# Altium schematic symbol library stm32sch.SchLib: 2 symbols
Pins are listed as number, name and electrical type; pins without a type are passive.

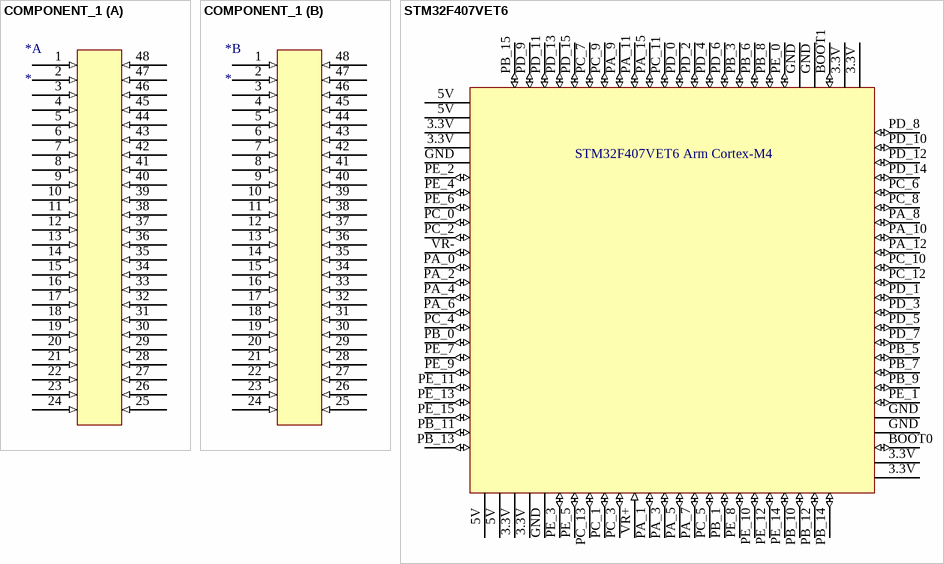
[diagram p0: symbols COMPONENT_1 to STM32F407VET6]

## COMPONENT_1
designator *
part A pins: 1 (in), 2 (in), 3 (in), 4 (in), 5 (in), 6 (in), 7 (in), 8 (in), 9 (in), 10 (in), 11 (in), 12 (in), 13 (in), 14 (in), 15 (in), 16 (in), 17 (in), 18 (in), 19 (in), 20 (in), 21 (in), 22 (in), 23 (in), 24 (in), 25 (in), 26 (in), 27 (in), 28 (in), 29 (in), 30 (in), 31 (in), 32 (in), 33 (in), 34 (in), 35 (in), 36 (in), 37 (in), 38 (in), 39 (in), 40 (in), 41 (in), 42 (in), 43 (in), 44 (in), 45 (in), 46 (in), 47 (in), 48 (in)
part B pins: 1 (in), 2 (in), 3 (in), 4 (in), 5 (in), 6 (in), 7 (in), 8 (in), 9 (in), 10 (in), 11 (in), 12 (in), 13 (in), 14 (in), 15 (in), 16 (in), 17 (in), 18 (in), 19 (in), 20 (in), 21 (in), 22 (in), 23 (in), 24 (in), 25 (in), 26 (in), 27 (in), 28 (in), 29 (in), 30 (in), 31 (in), 32 (in), 33 (in), 34 (in), 35 (in), 36 (in), 37 (in), 38 (in), 39 (in), 40 (in), 41 (in), 42 (in), 43 (in), 44 (in), 45 (in), 46 (in), 47 (in), 48 (in)

## STM32F407VET6
designator *
pins: 3.3V (power), 3.3V (power), 3.3V (power), 3.3V (power), 3.3V (power), 3.3V (power), 3.3V (power), 3.3V (power), 5V (power), 5V (power), 5V (power), 5V (power), BOOT0 (io), BOOT1 (io), GND (power), GND (power), GND (power), GND (power), GND (power), GND (power), PA_0 (io), PA_1 (io), PA_2 (io), PA_3 (io), PA_4 (io), PA_5 (io), PA_6 (io), PA_7 (io), PA_8 (io), PA_9 (io), PA_10 (io), PA_11 (io), PA_12 (io), PA_15 (io), PB_0 (io), PB_1 (io), PB_3 (io), PB_5 (io), PB_6 (io), PB_7 (io), PB_8 (io), PB_9 (io), PB_10 (io), PB_11 (io), PB_12 (io), PB_13 (io), PB_14 (io), PB_15 (io), PC_0 (io), PC_1 (io), PC_2 (io), PC_3 (io), PC_4 (io), PC_5 (io), PC_6 (io), PC_7 (io), PC_8 (io), PC_9 (io), PC_10 (io), PC_11 (io), PC_12 (io), PC_13 (io), PD_0 (io), PD_1 (io), PD_2 (io), PD_3 (io), PD_4 (io), PD_5 (io), PD_6 (io), PD_7 (io), PD_8 (io), PD_9 (io), PD_10 (io), PD_11 (io), PD_12 (io), PD_13 (io), PD_14 (io), PD_15 (io), PE_0 (io), PE_1 (io), PE_2 (io), PE_3 (io), PE_4 (io), PE_5 (io), PE_6 (io), PE_7 (io), PE_8 (io), PE_9 (io), PE_10 (io), PE_11 (io), PE_12 (io), PE_13 (io), PE_14 (io), PE_15 (io), VR+ (in), VR- (io)
text: STM32F407VET6 Arm Cortex-M4